# Altium schematic symbol library Schlib1.SchLib: 24 symbols
Pins are listed as number, name and electrical type; pins without a type are passive.

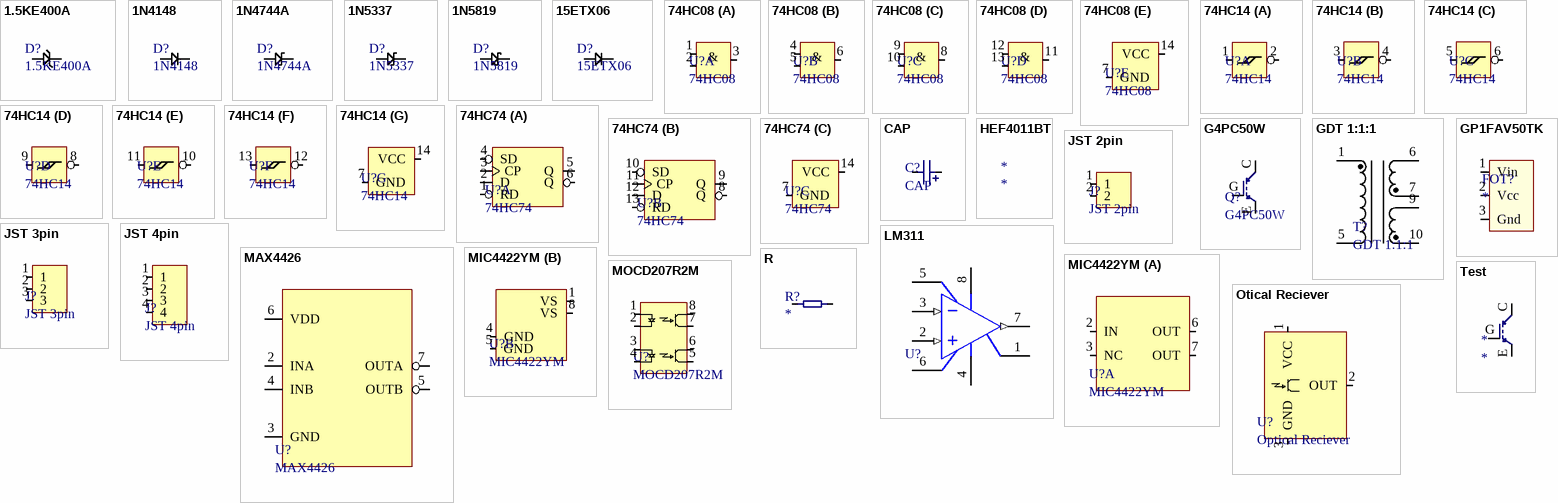
[diagram p0: symbols 1.5KE400A to Test]

## 1.5KE400A
designator D?
footprint DO-201
pins: A, K

## 1N4148
designator D?
footprint 1N4148
pins: A, K

## 1N4744A
designator D?
footprint DO-41
pins: A, K

## 1N5337
designator D?
footprint 1N5337
pins: A, K

## 1N5819
designator D?
footprint 1N5819
pins: A, K

## 15ETX06
designator D?
footprint TO-220; pin to pad 1>3 3>1
pins: 1 A, 3 K

## 74HC08
designator U?
footprint SOP14
part A pins: 1, 2, 3
part B pins: 4, 5, 6
part C pins: 8, 9, 10
part D pins: 11, 12, 13
part E pins: 7 GND, 14 VCC
part A text: &
part B text: &
part C text: &
part D text: &

## 74HC14
designator U?
footprint SOP14
part A pins: 1, 2
part B pins: 3, 4
part C pins: 5, 6
part D pins: 8, 9
part E pins: 10, 11
part F pins: 12, 13
part G pins: 7 GND, 14 VCC

## 74HC74
designator U?
footprint SOP14
part A pins: 1 RD, 2 D, 3 CP, 4 SD, 5 Q, 6 Q
part B pins: 8 Q, 9 Q, 10 SD, 11 CP, 12 D, 13 RD
part C pins: 7 GND, 14 VCC

## CAP
designator C?
footprint CAP 2.5mm
pins: 1, 2

## G4PC50W
designator Q?
footprint TO-247
pins: C 2, E 3, G 1

## GDT 1:1:1
designator T?
footprint SD250-3
pins: 1, 5, 6, 7, 9, 10

## GP1FAV50TK
designator FOT?
Farnell ID: 1243864; Datasheet: http://www.farnell.com/datasheets/1496758.pdf
footprint GP1FAV50TK (TOSLINK Transmitter 660nm)
pins: 1 Vin, 2 Vcc, 3 Gnd

## HEF4011BT
designator *
footprint HEF4011BT (NAND gate)

## JST 2pin
designator J?
footprint JST 2pin
pins: 1, 2

## JST 3pin
designator J?
footprint JST 3pin
pins: 1, 2, 3

## JST 4pin
designator J?
footprint JST 4pin
pins: 1, 2, 3, 4

## LM311
designator U?
footprint SOIC8-WIDE (SOIC, 8-Leads, Body 4.9x3.9mm, Pitch 1.27mm, IPC Medium Density)
pins: 1 GND (power), 2 IN+ (in), 3 IN- (in), 4 V- (power), 5 BAL, 6 BAL/STB, 7 OUT (out), 8 V+ (power)

## MAX4426
designator U?
Dual Mosfet Driver
footprint DIP8
footprint SOP8
pins: 2 INA, 3 GND, 4 INB, 5 OUTB, 6 VDD, 7 OUTA

## MIC4422YM
designator U?
footprint SOP8
part A pins: 2 IN, 3 NC, 6 OUT, 7 OUT
part B pins: 1 VS, 4 GND, 5 GND, 8 VS

## MOCD207R2M
designator U?
footprint SOP8
pins: 1, 2, 3, 4, 5, 6, 7, 8

## Otical Reciever
designator U?, comment Optical Reciever
footprint GP1FAV50TK (TOSLINK Transmitter 660nm)
pins: 1 VCC, 2 OUT, 3 GND

## R
designator R?
Value: 10R
footprint Axial 1/4W
pins: 1, 2

## Test
designator *
footprint TO-247
pins: C, E, G